# Altium schematic symbol library LD1084V.Schlib: 1 symbol
Pins are listed as number, name and electrical type; pins without a type are passive.

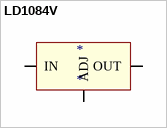
[diagram p0: symbol LD1084V]

## LD1084V
designator *
STMICROELECTRONICS         LD1084V            LDO Voltage Regulator, Adjustable, 30V in, 1.3V drop, 5A out, TO-220-3
pins: 1 IN, 2 ADJ, 3 OUT